# EAGLE library part 623326235521 (library Wuerth_Elektronik_eiCan_Pin_&_Socked_Headers_v1.3)
WR-PHD 1.27mm Dual SMT Pin Header H=1.80mm, 26 Pins
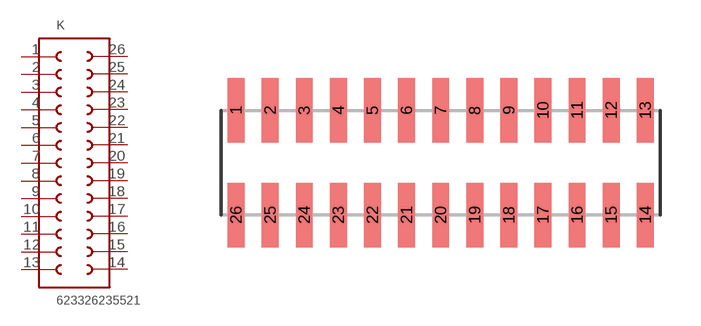
[diagram p336: symbol with the pads of 623326235521; footprint 623326235521]

Designator prefix K

## 623326235521  [623326235521]
1  1  pas
2  2  pas
3  3  pas
4  4  pas
5  5  pas
6  6  pas
7  7  pas
8  8  pas
9  9  pas
10  10  pas
11  11  pas
12  12  pas
13  13  pas
14  14  pas
15  15  pas
16  16  pas
17  17  pas
18  18  pas
19  19  pas
20  20  pas
21  21  pas
22  22  pas
23  23  pas
24  24  pas
25  25  pas
26  26  pas

## Footprint 623326235521 (pad centres in mm)
WR-PHD 1.27mm Dual SMT Pin Header H=1.80mm, 26 Pins
smd 0.63 x 2.4: 1 -7.62,1.95; 2 -6.35,1.95; 3 -5.08,1.95; 4 -3.81,1.95; 5 -2.54,1.95; 6 -1.27,1.95; 7 0,1.95; 8 1.27,1.95; 9 2.54,1.95; 10 3.81,1.95; 11 5.08,1.95; 12 6.35,1.95; 13 7.62,1.95; 14 7.62,-1.95; 15 6.35,-1.95; 16 5.08,-1.95; 17 3.81,-1.95; 18 2.54,-1.95; 19 1.27,-1.95; 20 0,-1.95; 21 -1.27,-1.95; 22 -2.54,-1.95; 23 -3.81,-1.95; 24 -5.08,-1.95; 25 -6.35,-1.95; 26 -7.62,-1.95